# EAGLE library part DC/DC_ISOLATED_VREF_VADJ (library Public)
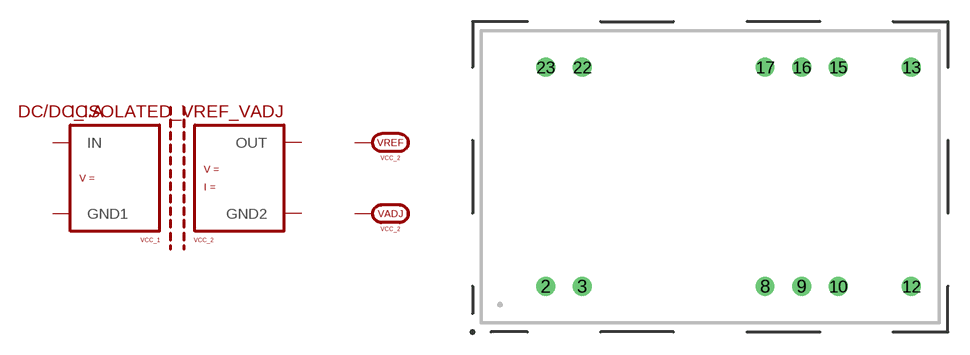
[diagram p236: symbol with the pads of RXX-B; footprint RXX-B]

Designator prefix IC; gates .A=DC/DC_ISOLATED .VREF=PIN_VREF .VADJ=PIN_VADJ

## DC/DC_ISOLATED_VREF_VADJ(RXX-B)  [RXX-B]
2  .A:GND1
3  .A:GND1
8  .VADJ:V_ADJ
9  .VREF:V_REF
10  .A:GND2
12  .A:OUT
13  .A:OUT
15  .A:GND2
16  .VREF:V_REF
17  .VADJ:V_ADJ
22  .A:IN
23  .A:IN

## Footprint RXX-B (pad centres in mm)
drill 0.8: 2 -11.43,-7.62; 3 -8.89,-7.62; 8 3.81,-7.62; 9 6.35,-7.62; 10 8.89,-7.62; 12 13.97,-7.62; 13 13.97,7.62; 15 8.89,7.62; 16 6.35,7.62; 17 3.81,7.62; 22 -8.89,7.62; 23 -11.43,7.62